# EAGLE library part 10X2CONNECTOR (library 10x2connector)
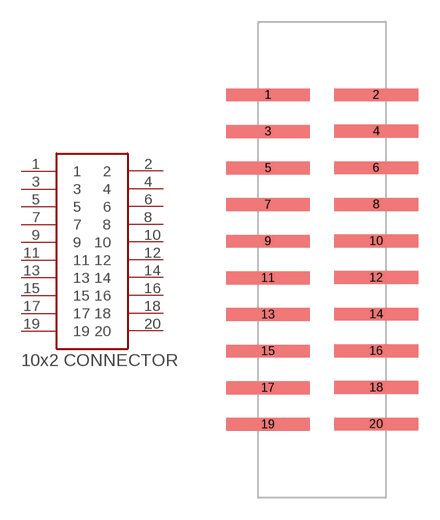
[diagram p0: symbol with the pads of 10X2CONNECTOR_SMD; footprint 10X2CONNECTOR_SMD]

Designator prefix -

## 10X2CONNECTORSMD  [10X2CONNECTOR_SMD]
1  1
2  2
3  3
4  4
5  5
6  6
7  7
8  8
9  9
10  10
11  11
12  12
13  13
14  14
15  15
16  16
17  17
18  18
19  19
20  20

## Footprint 10X2CONNECTOR_SMD (pad centres in mm)
smd 5.8 x 0.89: 1 -3.81,11.43; 2 3.69,11.43; 3 -3.81,8.89; 4 3.69,8.91; 5 -3.81,6.35; 6 3.69,6.37; 7 -3.81,3.81; 8 3.69,3.83; 9 -3.81,1.27; 10 3.69,1.29; 11 -3.81,-1.27; 12 3.69,-1.25; 13 -3.81,-3.81; 14 3.69,-3.79; 15 -3.81,-6.35; 16 3.69,-6.33; 17 -3.81,-8.89; 18 3.69,-8.87; 19 -3.81,-11.43; 20 3.69,-11.41